# Altium footprint library SparkFun-Connectors.PCBLIB: 386 footprints (part 18 of 25)
Each footprint in its own frame and in the unit in brackets; x right, y up, seen from the top. Pads: shape width x height; smd on the part's side, far side on the other; paste and mask are expansions set on the pad; w line width, h text height; cw(c..) or ccw(c..) is an arc to the next point about the centre after c.
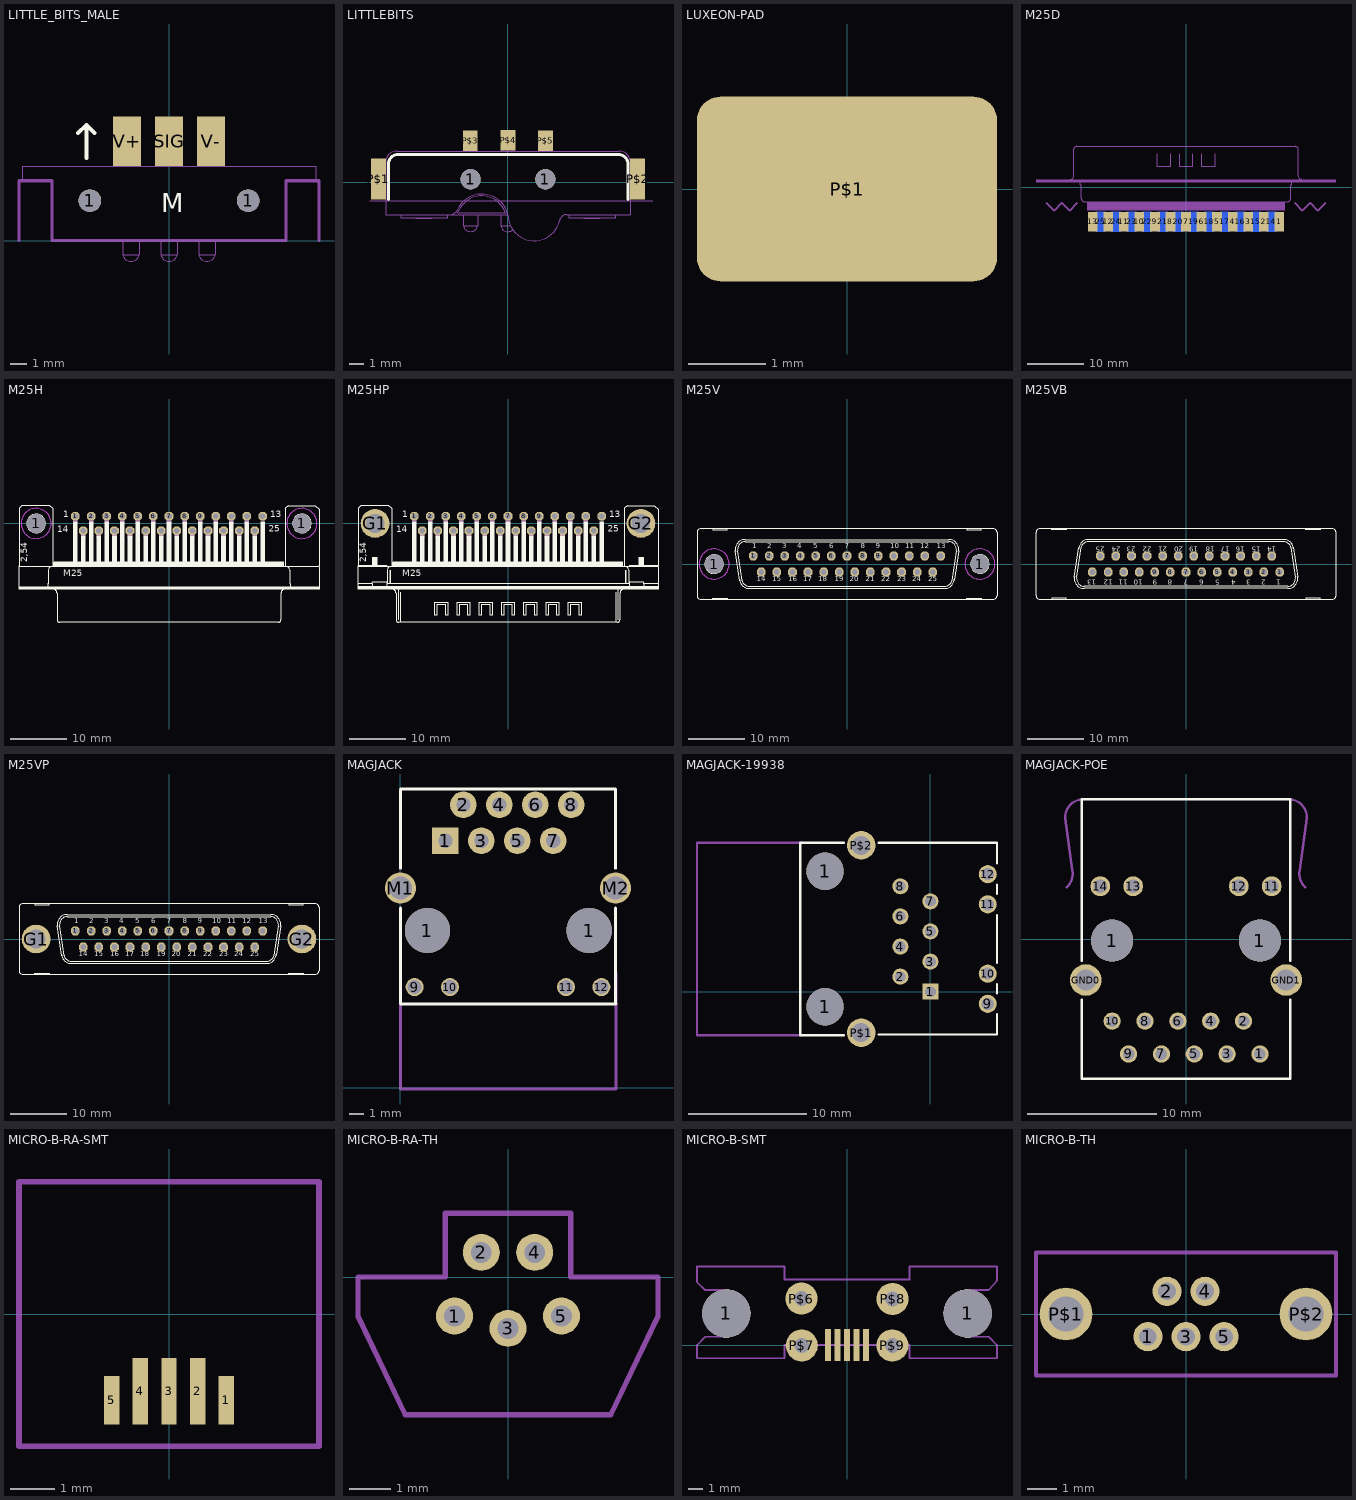
[diagram p17: the footprints below, top view; thin cyan lines are the x and y axes]

## LITTLE_BITS_MALE [mm]
pads (5):
  round 1.37 hole 1.37: 1(-4.79,2.41) 1(4.79,2.41)
  rect 1.7x3 smd: SIG(0,6) V+(-2.54,6) V-(2.54,6)
Top Overlay:
  lines w0.25: -5.5,6.5 -5,7 ; -5,5 -5,7 ; -4.5,6.5 -5,7
  text "M" at -0.483,1.321 h1.97
Mechanical 1:
  lines w0.203: -9.075,0 -9.075,3.61 -7.075,3.61 -7.075,0 7.075,0 7.075,3.61 9.075,3.61 9.075,0
Mechanical 16:
  lines w0: -2.797,-0.104 -2.797,-0.866 ; -1.806,-0.104 -1.806,-0.866 ; -0.485,-0.104 -0.485,-0.866 ; 0.505,-0.104 0.505,-0.866 ; 1.801,-0.104 1.801,-0.866 ; 2.791,-0.104 2.791,-0.866 ; -2.797,-0.866 -1.806,-0.866 ; -2.797,-0.866 ccw(c-2.301,-0.753) -1.806,-0.866 ; -0.485,-0.866 0.505,-0.866 ; -0.485,-0.866 ccw(c0.01,-0.753) 0.505,-0.866 ; 1.801,-0.866 2.791,-0.866 ; 1.801,-0.866 ccw(c2.296,-0.753) 2.791,-0.866
  lines w0.001: -8.875,3.61 -8.875,4.5 8.875,4.5 8.875,3.61

## LITTLEBITS [mil]
pads (7):
  round 54.09 hole 54.09: 1(-99,8.5) 1(101,8.5)
  rect 40x109 smd: P$1(-346,9.5) P$2(348,9.5)
  rect 40x55 smd: P$3(-100,111.5) P$4(1,112.5) P$5(101,111.5)
Top Overlay:
  lines w8: -319,-45.5 -319,49.5 cw(c-294,49.5) -294,74.5 297,74.5 cw(c297,49.5) 322,49.5 322,-45.5
Mechanical 16:
  circle w1: c-99.19,9.03 r25
  circle w1: c-99.19,9.03 r15
  circle w1: c100.82,9.03 r25
  circle w1: c100.82,9.03 r15
  lines w0: -369,-49.5 389,-49.5 ; -326.69,59.03 -326.69,-40.97 ; -286.69,-85.97 -286.69,-95.97 -161.69,-95.97 -161.69,-85.97 ; -245.85,-95.97 -245.85,-96.97 -204.19,-96.97 -204.19,-95.97 ; -236.48,-96.97 -236.48,-95.97 ; -210.43,-96.97 -210.43,-95.97 ; -137.44,-77.97 -133.44,-80.97 ; -118.69,-85.97 -118.69,-115.97 ; -114.19,84.03 -114.19,134.03 -84.19,134.03 -84.19,84.03 ; -79.69,-85.97 -79.69,-115.97 ; -14.19,84.03 -14.19,134.03 15.82,134.03 15.82,84.03 ; -1.41,-79.42 -5.87,-80.97 ; 0.83,-85.97 0.82,-85.97 ; 7.64,-115.97 -18.69,-115.97 ; 13.94,-126.62 cw(c0.81,-111.52) -18.69,-115.97 ; 85.82,84.03 85.82,134.03 115.82,134.03 115.82,84.03 ; 328.32,-40.97 363.32,-40.97 363.32,-3.47 cw(c363.32,9.03) 363.32,21.53 363.32,59.03 328.32,59.03 ; -326.69,-40.97 -326.69,-85.97 -153.44,-85.97 ; -326.69,-40.97 -361.69,-40.97 -361.69,-3.47 ccw(c-361.69,9.03) -361.69,21.53 -361.69,59.03 -326.26,59.03 cw(c-296.68,54.04) -296.69,84.03 115.82,84.03 ; -153.44,-85.97 -18.69,-85.97 ; -153.44,-85.97 ccw(c-153.44,-65.97) -135.13,-74.02 ; -135.13,-74.02 -130.56,-76.03 ; -135.13,-74.02 -135.14,-74.02 ; -135.14,-74.02 cw(c-69.18,-103.02) 0.82,-85.97 ; -133.44,-80.97 -5.87,-80.97 ; -133.44,-80.97 ccw(c-153.44,-66) -130.56,-76.03 ; -130.56,-76.03 cw(c-69.19,-103.02) -5.87,-80.97 ; -118.69,-115.97 -79.69,-115.97 ; -118.69,-115.97 ccw(c-99.19,-111.53) -79.69,-115.97 ; -18.69,-115.97 -18.69,-85.97 ; -18.69,-85.97 0.82,-85.97 ; 0.82,-85.97 ccw(c70.81,-85.97) 139.06,-101.52 cw(c158.57,-105.97) 158.57,-85.97 163.32,-85.97 ; 115.82,84.03 298.32,84.03 cw(c298.31,54.03) 327.9,59.03 328.32,59.03 ; 163.32,-85.97 288.32,-85.97 ; 163.32,-85.97 163.32,-95.97 204.15,-95.97 ; 204.15,-95.97 213.52,-95.97 ; 204.15,-95.97 204.15,-96.97 213.52,-96.97 ; 213.52,-96.97 239.57,-96.97 ; 213.52,-96.97 213.52,-95.97 ; 213.52,-95.97 239.57,-95.97 ; 239.57,-96.97 245.82,-96.97 245.82,-95.97 ; 239.57,-96.97 239.57,-95.97 ; 239.57,-95.97 245.82,-95.97 ; 245.82,-95.97 288.32,-95.97 288.32,-85.97 ; 288.32,-85.97 328.32,-85.97 328.32,59.03

## LUXEON-PAD [mil]
pads (1):
  rrect25% 153.54x94.49 smd: P$1(0,0)

## M25D [mil]
pads (25):
  rect 66.93x137.8 smd: 1(648.01,-237.98) 2(540,-237.99) 3(431.99,-237.98) 4(324.01,-237.98) 5(215.99,-237.98) 6(108.01,-237.98) 7(0,-237.99) 8(-108.01,-237.98) 9(-215.99,-237.98) 10(-324.01,-237.98) 11(-431.99,-237.98) 12(-540,-237.99) 13(-648.01,-237.98)
  rect 66.93x137.8 smd far side: 14(594,-238) 15(486,-238) 16(378,-238) 17(270,-238) 18(162,-238) 19(54,-238) 20(-54,-238) 21(-162,-238) 22(-270,-238) 23(-378,-238) 24(-486,-238) 25(-594,-238)
Mechanical 16:
  rectangle: -1043.31,35.43 1043.31,55.12
  rectangle: -688.98,-161.42 688.98,-98.43
  lines w6: -805,55.55 ccw(c-805,80.55) -780,80.55 -780,265.55 cw(c-760,265.55) -760,285.55 760,285.55 cw(c760,265.55) 780,265.55 780,80.55 ccw(c805,80.55) 805,55.55 ; -734,40 -734,20 -729,20 -729,-75 ccw(c-704,-75) -704,-100 ; -704.76,-100 704,-100 ; -200,234.45 -200,144.45 -110,144.45 -110,234.45 ; -45,234.45 -45,144.45 45,144.45 45,234.45 ; 110,234.45 110,144.45 200,144.45 200,234.45 ; 704.76,-100 704,-100 ; 734,40 734,20 729,20 729,-75 cw(c704,-75) 704,-100
  text "1" at 630.93,-85.77 h77.5
  text "13" at -663.8,-85.77 h77.5
  text "M25D" at -678,181 h77.5
Mechanical 30:
  lines w10: -972,-108 -918,-162 -864,-108 -810,-162 -756,-108 ; 756,-108 810,-162 864,-108 918,-162 972,-108
  text "Board" at 774,-100 h77.5
  text "25" at -577.19,-32.48 h77.5
  text "14" at 615.18,-32.48 h77.5
  text "Board" at -974,-100 h77.5

## M25H [mil]
pads (27):
  round 130 hole 130: 1(-926,0) 1(926,0)
  oct 60x60 hole 40: 1(-652,50) 2(-543,50) 3(-435,50) 4(-326,50) 5(-217,50) 6(-109,50) 7(0,50) 8(109,50) 9(217,50) 10(326,50) 11(435,50) 12(543,50) 13(652,50) 14(-598,-50) 15(-489,-50) 16(-380,-50) 17(-272,-50) 18(-163,-50) 19(-54,-50) 20(54,-50) 21(163,-50) 22(272,-50) 23(380,-50) 24(489,-50) 25(598,-50)
Top Overlay:
  circle w6: c926,0 r65
  circle w6: c-926,0 r65
  rectangle: -1045,-460 1045,-440
  rectangle: -800,-300 800,-270
  rectangle: -668,-270 -636,15
  rectangle: -614,-270 -582,-85
  rectangle: -559,-270 -527,15
  rectangle: -505,-270 -473,-85
  rectangle: -451,-270 -419,15
  rectangle: -396,-270 -364,-85
  rectangle: -342,-270 -310,15
  rectangle: -288,-270 -256,-85
  rectangle: -233,-270 -201,15
  rectangle: -179,-270 -147,-85
  rectangle: -125,-270 -93,15
  rectangle: -70,-270 -38,-85
  rectangle: -16,-270 16,15
  rectangle: 38,-270 70,-85
  rectangle: 93,-270 125,15
  rectangle: 147,-270 179,-85
  rectangle: 201,-270 233,15
  rectangle: 256,-270 288,-85
  rectangle: 310,-270 342,15
  rectangle: 364,-270 396,-85
  rectangle: 419,-270 451,15
  rectangle: 473,-270 505,-85
  rectangle: 527,-270 559,15
  rectangle: 582,-270 614,-85
  rectangle: 636,-270 668,15
  lines w6: -845,-440 -845,-420 -840,-420 -840,-325 cw(c-815,-325) -815,-300 ; -805,-460 cw(c-805,-485) -780,-485 -780,-670 ccw(c-760,-670) -760,-690 -750,-690 750,-690 760,-690 ccw(c760,-670) 780,-670 780,-485 cw(c805,-485) 805,-460 ; 815,-300 cw(c815,-325) 840,-325 840,-420 845,-420 845,-440 ; -1045,-300 -1045,-420 -1045,-440 -1045,-460 -765,-460 765,-460 1045,-460 1045,-440 1045,-420 1045,-300 ; -1045,-300 -1045,-295 -1045,105 -1025,125 -830,125 -810,105 -810,-300 ; -1045,-300 -845,-300 -810,-300 ; -810,-300 -800,-300 ; -800,-300 800,-300 ; -800,-300 -800,-270 800,-270 800,-300 ; 800,-300 810,-300 ; 810,-300 845,-300 1045,-300 ; 810,-300 810,105 830,125 1020,125 1045,100 1045,-295 1045,-300
  text "1" at -735,25 h77.5
  text "13" at 705,25 h77.5
  text "14" at -780,-80 h77.5
  text "25" at 695,-75 h77.5
  text "2,54" at -970,-270 h77.5
  text "M25" at -735,-385 h77.5
Mechanical 9 keep-out:
  circle w0: c926,0 r105
  circle w0: c-926,0 r105
Mechanical 10:
  circle w0: c926,0 r105
  circle w0: c-926,0 r105
Mechanical 16:
  lines w6: 652,5 652,45
  lines w32: -652,5 -652,45 ; -598,-94 -598,-54 ; -543,5 -543,45 ; -489,-94 -489,-54 ; -435,5 -435,45 ; -380,-94 -380,-54 ; -326,5 -326,45 ; -272,-95 -272,-55 ; -217,5 -217,45 ; -163,-95 -163,-55 ; -109,5 -109,45 ; -54,-95 -54,-55 ; 0,5 0,45 ; 54,-95 54,-55 ; 109,5 109,45 ; 163,-95 163,-55 ; 217,5 217,45 ; 272,-95 272,-55 ; 326,5 326,45 ; 380,-95 380,-55 ; 435,5 435,45 ; 489,-95 489,-55 ; 543,5 543,45 ; 598,-95 598,-55

## M25HP [mil]
pads (27):
  oct 60x60 hole 40: 1(-652,50) 2(-543,50) 3(-435,50) 4(-326,50) 5(-217,50) 6(-109,50) 7(0,50) 8(109,50) 9(217,50) 10(326,50) 11(435,50) 12(543,50) 13(652,50) 14(-598,-50) 15(-489,-50) 16(-380,-50) 17(-272,-50) 18(-163,-50) 19(-54,-50) 20(54,-50) 21(163,-50) 22(272,-50) 23(380,-50) 24(489,-50) 25(598,-50)
  round 200 hole 130: G1(-926,0) G2(926,0)
Top Overlay:
  drawing of 161 lines, arcs and shapes, not listed
  text "1" at -735,25 h77.5
  text "13" at 705,25 h77.5
  text "14" at -780,-80 h77.5
  text "25" at 695,-75 h77.5
  text "2,54" at -970,-270 h77.5
  text "M25" at -735,-385 h77.5
Mechanical 16:
  lines w6: 652,5 652,45
  lines w32: -652,5 -652,45 ; -598,-94 -598,-54 ; -543,5 -543,45 ; -489,-94 -489,-54 ; -435,5 -435,45 ; -380,-94 -380,-54 ; -326,5 -326,45 ; -272,-95 -272,-55 ; -217,5 -217,45 ; -163,-95 -163,-55 ; -109,5 -109,45 ; -54,-95 -54,-55 ; 0,5 0,45 ; 54,-95 54,-55 ; 109,5 109,45 ; 163,-95 163,-55 ; 217,5 217,45 ; 272,-95 272,-55 ; 326,5 326,45 ; 380,-95 380,-55 ; 435,5 435,45 ; 489,-95 489,-55 ; 543,5 543,45 ; 598,-95 598,-55

## M25V [mil]
pads (27):
  round 130 hole 130: 1(-926,0) 1(926,0)
  oct 60x60 hole 40: 1(-652,56) 2(-543,56) 3(-435,56) 4(-326,56) 5(-217,56) 6(-109,56) 7(0,56) 8(109,56) 9(217,56) 10(326,56) 11(435,56) 12(543,56) 13(652,56) 14(-598,-56) 15(-489,-56) 16(-380,-56) 17(-272,-56) 18(-163,-56) 19(-54,-56) 20(54,-56) 21(163,-56) 22(272,-56) 23(380,-56) 24(489,-56) 25(598,-56)
Top Overlay:
  circle w6: c-926,-1 r65
  circle w6: c926,0 r65
  lines w6: -777,92 -746,-116 ; -776.68,88.67 cw(c-710,102) -710,170 710,170 cw(c710,101.99) 776.69,88.67 ; -762,92 -731,-116 ; -761.97,91.61 cw(c-710,102) -710,155 710,155 cw(c710,101.99) 761.79,90.7 ; -747.4,-110.99 ccw(c-680,-102) -680,-170 680,-170 ccw(c679.99,-102) 747.89,-105.7 ; -731.3,-115.33 ccw(c-680,-101.99) -680,-155 680,-155 ccw(c679.99,-102) 731.52,-114.37 ; 731,-115 762,91 ; 747,-113 777,91 ; -935,-245 -935,-240 -835,-240 -835,-245 ; -935,-245 -835,-245 ; -935,-245 -1020,-245 cw(c-1020,-220) -1045,-220 -1045,220 cw(c-1020,220) -1020,245 -935,245 ; -935,245 -935,240 -835,240 -835,245 ; -935,245 -835,245 ; -835,-245 835,-245 ; -835,245 835,245 ; 835,-245 835,-240 935,-240 935,-245 ; 835,-245 935,-245 ; 835,245 835,240 935,240 935,245 ; 835,245 935,245 ; 935,-245 1020,-245 ccw(c1020,-220) 1045,-220 1045,220 ccw(c1020,220) 1020,245 935,245
  text "1" at -660,95 h60.45
  text "2" at -555,95 h60.45
  text "3" at -450,95 h60.45
  text "4" at -345,95 h60.45
  text "5" at -235,95 h60.45
  text "6" at -125,95 h60.45
  text "7" at -15,95 h60.45
  text "8" at 95,95 h60.45
  text "9" at 200,95 h60.45
  text "10" at 300,95 h60.45
  text "11" at 405,95 h60.45
  text "12" at 510,95 h60.45
  text "13" at 625,95 h60.45
  text "14" at -630,-135 h60.45
  text "15" at -520,-135 h60.45
  text "16" at -410,-135 h60.45
  text "17" at -305,-135 h60.45
  text "18" at -200,-135 h60.45
  text "19" at -85,-135 h60.45
  text "20" at 20,-135 h60.45
  text "21" at 130,-135 h60.45
  text "22" at 240,-135 h60.45
  text "23" at 350,-135 h60.45
  text "24" at 455,-135 h60.45
  text "25" at 565,-135 h60.45
Mechanical 9 keep-out:
  circle w0: c926,0 r105
  circle w0: c-926,0 r105
Mechanical 10:
  circle w0: c926,0 r105
  circle w0: c-926,0 r105
Mechanical 16:
  circle w16: c-109,56 r10
  circle w16: c-163,-56 r10
  circle w16: c-217,56 r10
  circle w16: c0,56 r10
  circle w16: c-54,-56 r10
  circle w16: c54,-56 r10
  circle w16: c109,56 r10
  circle w16: c217,56 r10
  circle w16: c163,-56 r10
  circle w16: c272,-56 r10
  circle w16: c326,56 r10
  circle w16: c380,-56 r10
  circle w16: c435,56 r10
  circle w16: c489,-56 r10
  circle w16: c543,56 r10
  circle w16: c652,56 r10
  circle w16: c598,-56 r10
  circle w16: c-326,56 r10
  circle w16: c-272,-56 r10
  circle w16: c-380,-56 r10
  circle w16: c-435,56 r10
  circle w16: c-543,56 r10
  circle w16: c-652,56 r10
  circle w16: c-489,-56 r10
  circle w16: c-598,-56 r10

## M25VB [mil]
pads (25):
  oct 60x60 hole 40: 1(652,-56) 2(543,-56) 3(435,-56) 4(326,-56) 5(217,-56) 6(109,-56) 7(0,-56) 8(-109,-56) 9(-217,-56) 10(-326,-56) 11(-435,-56) 12(-543,-56) 13(-652,-56) 14(598,56) 15(489,56) 16(380,56) 17(272,56) 18(163,56) 19(54,56) 20(-54,56) 21(-163,56) 22(-272,56) 23(-380,56) 24(-489,56) 25(-598,56)
Top Overlay:
  lines w6: -777,-91 -747,113 ; -776.69,-88.67 ccw(c-710,-101.99) -710,-170 710,-170 ccw(c710,-102) 776.68,-88.67 ; -762,-91 -731,115 ; -761.79,-90.7 ccw(c-710,-101.99) -710,-155 710,-155 ccw(c710,-102) 761.97,-91.61 ; -747.89,105.7 cw(c-679.99,102) -680,170 680,170 cw(c680,102) 747.4,110.99 ; -731.52,114.37 cw(c-679.99,102) -680,155 680,155 cw(c680,101.99) 731.3,115.33 ; 731,116 762,-92 ; 746,116 777,-92 ; -935,-245 -1020,-245 cw(c-1020,-220) -1045,-220 -1045,220 cw(c-1020,220) -1020,245 -935,245 ; -935,-245 -935,-240 -835,-240 -835,-245 ; -935,-245 -835,-245 ; -935,245 -835,245 ; -935,245 -935,240 -835,240 -835,245 ; -835,-245 835,-245 ; -835,245 835,245 ; 835,-245 835,-240 935,-240 935,-245 ; 835,-245 935,-245 ; 835,245 935,245 ; 835,245 835,240 935,240 935,245 ; 935,-245 1020,-245 ccw(c1020,-220) 1045,-220 1045,220 ccw(c1020,220) 1020,245 935,245
  text "1" at 660,-95 h60.45
  text "2" at 555,-95 h60.45
  text "3" at 450,-95 h60.45
  text "4" at 345,-95 h60.45
  text "5" at 235,-95 h60.45
  text "6" at 125,-95 h60.45
  text "7" at 15,-95 h60.45
  text "8" at -95,-95 h60.45
  text "9" at -200,-95 h60.45
  text "10" at -300,-95 h60.45
  text "11" at -405,-95 h60.45
  text "12" at -510,-95 h60.45
  text "13" at -625,-95 h60.45
  text "14" at 630,135 h60.45
  text "15" at 520,135 h60.45
  text "16" at 410,135 h60.45
  text "17" at 305,135 h60.45
  text "18" at 200,135 h60.45
  text "19" at 85,135 h60.45
  text "20" at -20,135 h60.45
  text "21" at -130,135 h60.45
  text "22" at -240,135 h60.45
  text "23" at -350,135 h60.45
  text "24" at -455,135 h60.45
  text "25" at -565,135 h60.45
Mechanical 16:
  circle w16: c109,-56 r10
  circle w16: c163,56 r10
  circle w16: c217,-56 r10
  circle w16: c0,-56 r10
  circle w16: c54,56 r10
  circle w16: c-54,56 r10
  circle w16: c-109,-56 r10
  circle w16: c-217,-56 r10
  circle w16: c-163,56 r10
  circle w16: c-272,56 r10
  circle w16: c-326,-56 r10
  circle w16: c-380,56 r10
  circle w16: c-435,-56 r10
  circle w16: c-489,56 r10
  circle w16: c-543,-56 r10
  circle w16: c-652,-56 r10
  circle w16: c-598,56 r10
  circle w16: c326,-56 r10
  circle w16: c272,56 r10
  circle w16: c380,56 r10
  circle w16: c435,-56 r10
  circle w16: c543,-56 r10
  circle w16: c652,-56 r10
  circle w16: c489,56 r10
  circle w16: c598,56 r10

## M25VP [mil]
pads (27):
  oct 60x60 hole 40: 1(-652,56) 2(-543,56) 3(-435,56) 4(-326,56) 5(-217,56) 6(-109,56) 7(0,56) 8(109,56) 9(217,56) 10(326,56) 11(435,56) 12(543,56) 13(652,56) 14(-598,-56) 15(-489,-56) 16(-380,-56) 17(-272,-56) 18(-163,-56) 19(-54,-56) 20(54,-56) 21(163,-56) 22(272,-56) 23(380,-56) 24(489,-56) 25(598,-56)
  round 200 hole 130: G1(-926,0) G2(926,0)
Top Overlay:
  circle w6: c-926,-1 r65
  circle w6: c926,0 r65
  lines w6: -777,92 -746,-116 ; -776.68,88.67 cw(c-710,102) -710,170 710,170 cw(c710,101.99) 776.69,88.67 ; -762,92 -731,-116 ; -761.97,91.61 cw(c-710,102) -710,155 710,155 cw(c710,101.99) 761.79,90.7 ; -747.4,-110.99 ccw(c-680,-102) -680,-170 680,-170 ccw(c679.99,-102) 747.89,-105.7 ; -731.3,-115.33 ccw(c-680,-101.99) -680,-155 680,-155 ccw(c679.99,-102) 731.52,-114.37 ; 731,-115 762,91 ; 747,-113 777,91 ; -935,-245 -935,-240 -835,-240 -835,-245 ; -935,-245 -835,-245 ; -935,-245 -1020,-245 cw(c-1020,-220) -1045,-220 -1045,220 cw(c-1020,220) -1020,245 -935,245 ; -935,245 -935,240 -835,240 -835,245 ; -935,245 -835,245 ; -835,-245 835,-245 ; -835,245 835,245 ; 835,-245 835,-240 935,-240 935,-245 ; 835,-245 935,-245 ; 835,245 835,240 935,240 935,245 ; 835,245 935,245 ; 935,-245 1020,-245 ccw(c1020,-220) 1045,-220 1045,220 ccw(c1020,220) 1020,245 935,245
  text "1" at -660,95 h60.45
  text "2" at -555,95 h60.45
  text "3" at -450,95 h60.45
  text "4" at -345,95 h60.45
  text "5" at -235,95 h60.45
  text "6" at -125,95 h60.45
  text "7" at -15,95 h60.45
  text "8" at 95,95 h60.45
  text "9" at 200,95 h60.45
  text "10" at 300,95 h60.45
  text "11" at 405,95 h60.45
  text "12" at 510,95 h60.45
  text "13" at 625,95 h60.45
  text "14" at -630,-135 h60.45
  text "15" at -520,-135 h60.45
  text "16" at -410,-135 h60.45
  text "17" at -305,-135 h60.45
  text "18" at -200,-135 h60.45
  text "19" at -85,-135 h60.45
  text "20" at 20,-135 h60.45
  text "21" at 130,-135 h60.45
  text "22" at 240,-135 h60.45
  text "23" at 350,-135 h60.45
  text "24" at 455,-135 h60.45
  text "25" at 565,-135 h60.45
Mechanical 16:
  circle w16: c-109,56 r10
  circle w16: c-163,-56 r10
  circle w16: c-217,56 r10
  circle w16: c0,56 r10
  circle w16: c-54,-56 r10
  circle w16: c54,-56 r10
  circle w16: c109,56 r10
  circle w16: c217,56 r10
  circle w16: c163,-56 r10
  circle w16: c272,-56 r10
  circle w16: c326,56 r10
  circle w16: c380,-56 r10
  circle w16: c435,56 r10
  circle w16: c489,-56 r10
  circle w16: c543,56 r10
  circle w16: c652,56 r10
  circle w16: c598,-56 r10
  circle w16: c-326,56 r10
  circle w16: c-272,-56 r10
  circle w16: c-380,-56 r10
  circle w16: c-435,56 r10
  circle w16: c-543,56 r10
  circle w16: c-652,56 r10
  circle w16: c-489,-56 r10
  circle w16: c-598,-56 r10

## MAGJACK [mil]
pads (16):
  round 125.98 hole 125.98: 1(75,436.81) 1(525,436.81)
  rect 74x74 hole 39.37: 1(125,686.81)
  round 74 hole 39.37: 2(175,786.81) 3(225,686.81) 4(275,786.81) 5(325,686.81) 6(375,786.81) 7(425,686.81) 8(475,786.81)
  round 50 hole 39.37: 9(39.37,279.53) 10(137.8,279.53) 11(460.63,279.53) 12(559.06,279.53)
  round 86 hole 62.99: M1(0,555.12) M2(598.43,555.12)
Top Overlay:
  lines w8: 0,232.09 600,232.09 ; 0,236.22 0,500 ; 0,610.24 0,826.77 ; 0,830.51 596.06,830.51 ; 598.43,232.28 598.43,500 ; 598.43,610.24 598.43,830.71
Mechanical 16:
  lines w8: 0,318.7 0,-4.13 600,-4.13 600,318.7

## MAGJACK-19938 [mil]
pads (16):
  round 124.02 hole 124.02: 1(-350,-50) 1(-350,400)
  rect 53.15x53.15 hole 35.43: 1(0,0)
  round 53.15 hole 35.43: 2(-100,50) 3(0,100) 4(-100,150) 5(0,200) 6(-100,250) 7(0,300) 8(-100,350)
  round 60.24 hole 40.16: 9(190.16,-40.16) 10(190.16,59.84) 11(190.16,290.16) 12(190.16,390.16)
  round 94.48 hole 62.99: P$1(-229.92,-136.02) P$2(-229.92,486.02)
Top Overlay:
  lines w8: -288.19,-143.9 -432.68,-143.9 -432.68,493.9 -288.19,493.9 ; -171.26,-142.13 220.87,-142.13 220.87,-75 ; -171.26,493.9 220.87,493.9 220.87,426.57 ; 220.87,-5.71 220.87,25 ; 220.87,96.65 220.87,253.35 ; 220.87,325 220.87,355.71
Mechanical 16:
  lines w8: -429.13,-143.9 -775.2,-143.9 -775.2,493.9 -429.13,493.9

## MAGJACK-POE [mm]
pads (18):
  round 3.25 hole 3.25: 1(-5.715,-0.12) 1(5.715,-0.12)
  round 1.335 hole 0.89: 1(5.72,-8.89) 2(4.45,-6.35) 3(3.18,-8.89) 4(1.91,-6.35) 5(0.64,-8.89) 6(-0.63,-6.35) 7(-1.9,-8.89) 8(-3.17,-6.35) 9(-4.44,-8.89) 10(-5.71,-6.35)
  round 1.53 hole 1.02: 11(6.625,4.08) 12(4.085,4.08) 13(-4.085,4.08) 14(-6.625,4.08)
  round 2.445 hole 1.63: GND0(-7.745,-3.17) GND1(7.745,-3.17)
Top Overlay:
  lines w0.178: -8.05,-4.7 -8.05,-10.8 8.05,-10.8 8.05,-4.7 ; -8.05,-1.7 -8.05,10.8 8.05,10.8 8.05,-1.7
Mechanical 16:
  lines w0.178: -9.24,3.98 ccw(c-10.179,5.044) -8.787,5.319 -9.34,9.31 cw(c-7.95,9.41) -8.05,10.8 ; 8.05,10.8 cw(c7.95,9.41) 9.34,9.31 8.787,5.319 ccw(c10.179,5.044) 9.24,3.98

## MICRO-B-RA-SMT [mm]
pads (5):
  rect 0.35x1.1 smd: 1(1.3,-1.95) 5(-1.3,-1.95)
  rect 0.35x1.5 smd: 2(0.65,-1.75) 3(0,-1.75) 4(-0.65,-1.75)
Mechanical 16:
  lines w0.127: -3.4,-3 3.4,-3 3.4,3 -3.4,3 -3.4,-3

## MICRO-B-RA-TH [mil]
pads (5):
  round 35.43 hole 20: 1(-51.18,-37.4) 2(-25.59,23.62) 3(0,-49.21) 4(25.59,23.62) 5(51.18,-37.4)
Mechanical 16:
  lines w5: -143.7,-37.4 -143.7,0 -60.04,0 -60.04,61.02 60.04,61.02 60.04,0 143.7,0 143.7,-37.4 98.43,-131.89 -98.43,-131.89 -143.7,-37.4

## MICRO-B-SMT [mil]
pads (11):
  round 129.92 hole 129.92: 1(-325.79,85.43) 1(325.79,85.43)
  rect 15.75x86.61 smd: 1(-51.18,0) 2(-25.59,0) 3(0,0) 4(25.59,0) 5(51.18,0)
  round 86.61 hole 40: P$6(-122.86,125.32) P$7(-121.97,-1.06) P$8(122.91,124.42) P$9(122.36,-1.01)
Mechanical 16:
  lines w5: -404.53,-35.43 -404.53,0 -381.89,22.44 -325.79,22.44 ccw(c-325.79,85.44) -325.79,148.43 -381.89,148.43 -404.53,169.29 -404.53,211.81 -168.31,211.81 -168.31,176.38 168.31,176.38 168.31,211.81 404.53,211.81 404.53,173.23 381.89,148.43 325.79,148.43 ccw(c325.79,85.44) 325.79,22.44 381.89,22.44 404.53,0 404.53,-35.43 168.31,-35.43 168.31,0 -168.31,0 -168.31,-35.43 -404.53,-35.43

## MICRO-B-TH [mm]
pads (7):
  round 1 hole 0.6: 1(-1.3,-0.775) 2(-0.65,0.775) 3(0,-0.775) 4(0.65,0.775) 5(1.3,-0.775)
  round 1.8 hole 1.2: P$1(-4.1,0) P$2(4.1,0)
Mechanical 16:
  lines w0.127: -5.125,-2.1 5.125,-2.1 5.125,2.1 -5.125,2.1 -5.125,-2.1